# Altium footprint library Jump_254.PcbLib: 184 footprints (part 8 of 12)
Each footprint in its own frame and in the unit in brackets; x right, y up, seen from the top. Pads: shape width x height; smd on the part's side, far side on the other; paste and mask are expansions set on the pad; w line width, h text height; cw(c..) or ccw(c..) is an arc to the next point about the centre after c.
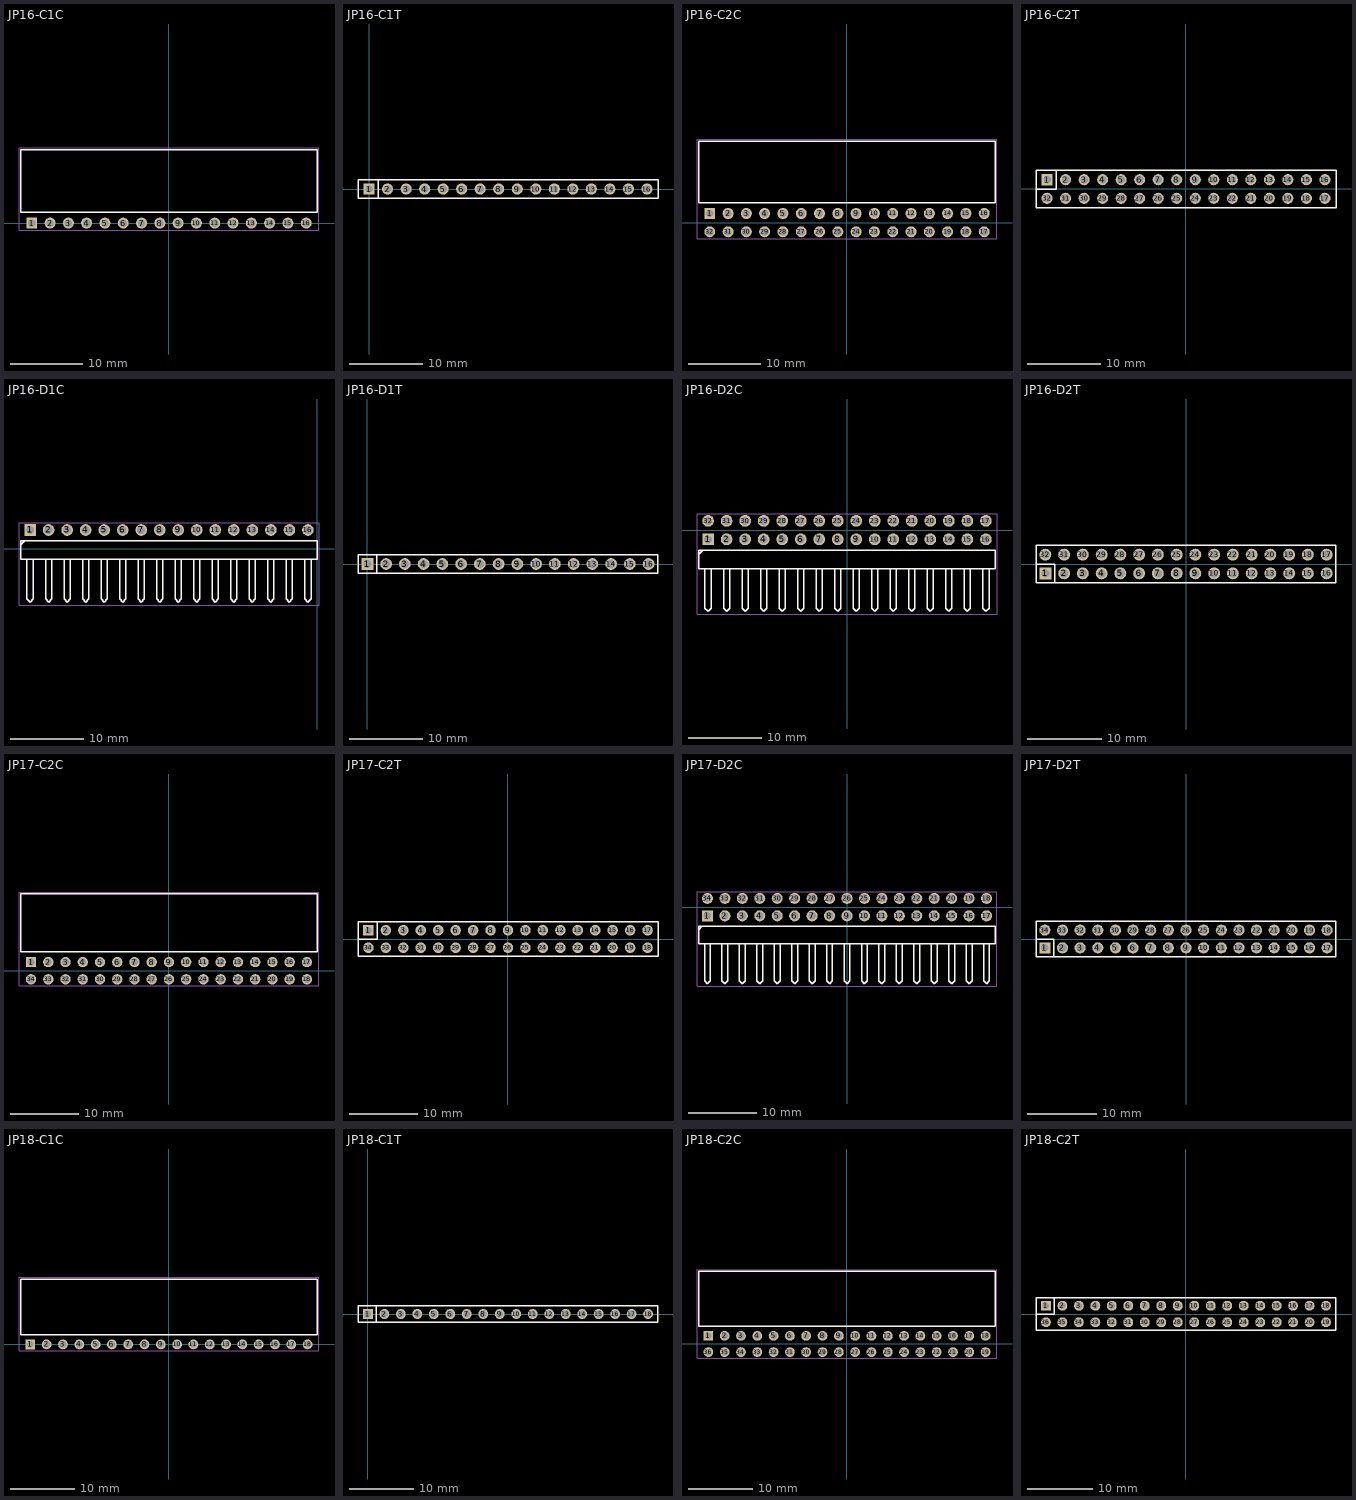
[diagram p7: the footprints below, top view; thin cyan lines are the x and y axes]

## JP16-C1C [mm] "16p 1 row Right angle"
height 2.5
pads (16):
  rect 1.52x1.52 hole 1.02: 1(-19.05,0)
  round 1.52 hole 1.02: 2(-16.51,0) 3(-13.97,0) 4(-11.43,0) 5(-8.89,0) 6(-6.35,0) 7(-3.81,0) 8(-1.27,0) 9(1.27,0) 10(3.81,0) 11(6.35,0) 12(8.89,0) 13(11.43,0) 14(13.97,0) 15(16.51,0) 16(19.05,0)
Top Overlay:
  lines w0.2: -20.574,1.524 -20.574,10.173 20.574,10.173 20.574,1.524 -20.574,1.524
Mechanical 15:
  lines w0.1: -20.82,-0.96 20.824,-0.96 20.824,10.423 -20.82,10.423 -20.82,-0.96
3D body "613016143121.stp": height 2.51, standoff -3.08, extent -20.57,-0.208 20.57,10.092

## JP16-C1T [mm] "16 row, straight, gold plating"
height 8.5
pads (16):
  rect 1.52x1.52 hole 1.02: 1(0,0)
  round 1.52 hole 1.02: 2(2.54,0) 3(5.08,0) 4(7.62,0) 5(10.16,0) 6(12.7,0) 7(15.24,0) 8(17.78,0) 9(20.32,0) 10(22.86,0) 11(25.4,0) 12(27.94,0) 13(30.48,0) 14(33.02,0) 15(35.56,0) 16(38.1,0)
Top Overlay:
  lines w0.2: 1.27,-1.27 1.27,1.27 ; -1.52,-1.27 39.62,-1.27 39.62,1.27 0.635,1.27 -1.52,1.27 -1.52,-1.27
3D body "61301611821.stp": height 8.51, standoff -3.09, extent -1.52,-1.25 39.62,1.25

## JP16-C2C [mm] "32p 2 rows Right angle"
height 5.08
pads (32):
  rect 1.52x1.52 hole 1.02: 1(-19.05,1.27)
  round 1.52 hole 1.02: 2(-16.51,1.27) 3(-13.97,1.27) 4(-11.43,1.27) 5(-8.89,1.27) 6(-6.35,1.27) 7(-3.81,1.27) 8(-1.27,1.27) 9(1.27,1.27) 10(3.81,1.27) 11(6.35,1.27) 12(8.89,1.27) 13(11.43,1.27) 14(13.97,1.27) 15(16.51,1.27) 16(19.05,1.27) 17(19.05,-1.27) 18(16.51,-1.27) 19(13.97,-1.27) 20(11.43,-1.27) 21(8.89,-1.27) 22(6.35,-1.27) 23(3.81,-1.27) 24(1.27,-1.27) 25(-1.27,-1.27) 26(-3.81,-1.27) 27(-6.35,-1.27) 28(-8.89,-1.27) 29(-11.43,-1.27) 30(-13.97,-1.27) 31(-16.51,-1.27) 32(-19.05,-1.27)
Top Overlay:
  lines w0.2: -20.574,2.794 20.574,2.794 20.574,11.316 -20.574,11.316 -20.574,2.794
Mechanical 15:
  lines w0.1: -20.82,-2.23 20.824,-2.23 20.824,11.566 -20.82,11.566 -20.82,-2.23
3D body "613032243121.stp": height 5.09, standoff -4.46, extent -20.57,-1.478 20.57,11.362

## JP16-C2T [mm] "32 pins, dual row, straight, gold plating"
height 8.5
pads (32):
  rect 1.52x1.52 hole 1.02: 1(-19.05,1.27)
  round 1.52 hole 1.02: 2(-16.51,1.27) 3(-13.97,1.27) 4(-11.43,1.27) 5(-8.89,1.27) 6(-6.35,1.27) 7(-3.81,1.27) 8(-1.27,1.27) 9(1.27,1.27) 10(3.81,1.27) 11(6.35,1.27) 12(8.89,1.27) 13(11.43,1.27) 14(13.97,1.27) 15(16.51,1.27) 16(19.05,1.27) 17(19.05,-1.27) 18(16.51,-1.27) 19(13.97,-1.27) 20(11.43,-1.27) 21(8.89,-1.27) 22(6.35,-1.27) 23(3.81,-1.27) 24(1.27,-1.27) 25(-1.27,-1.27) 26(-3.81,-1.27) 27(-6.35,-1.27) 28(-8.89,-1.27) 29(-11.43,-1.27) 30(-13.97,-1.27) 31(-16.51,-1.27) 32(-19.05,-1.27)
Top Overlay:
  lines w0.2: -20.57,0 -17.78,0 -17.78,2.54 ; -20.57,-2.54 20.57,-2.54 20.57,2.54 -20.57,2.54 -20.57,-2.54
3D body "61303221821.stp": height 8.51, standoff -3.09, extent -20.57,-2.54 20.57,2.54

## JP16-D1C [mm] "16 pins, 1 row, right angled, gold plating"
height 2.54
pads (16):
  rect 1.6x1.6 hole 1.1: 1(-39.37,2.54)
  round 1.6 hole 1.1: 2(-36.83,2.54) 3(-34.29,2.54) 4(-31.75,2.54) 5(-29.21,2.54) 6(-26.67,2.54) 7(-24.13,2.54) 8(-21.59,2.54) 9(-19.05,2.54) 10(-16.51,2.54) 11(-13.97,2.54) 12(-11.43,2.54) 13(-8.89,2.54) 14(-6.35,2.54) 15(-3.81,2.54) 16(-1.27,2.54)
Top Overlay:
  lines w0.2: -40.598,0.574 -40.174,0.998 ; -39.793,-1.525 -39.793,-6.919 -39.37,-7.342 -38.947,-6.919 -38.947,-1.5 ; -37.253,-1.525 -37.253,-6.919 -36.83,-7.342 -36.407,-6.919 -36.407,-1.525 ; -34.713,-1.525 -34.713,-6.919 -34.29,-7.342 -33.867,-6.919 -33.867,-1.5 ; -32.173,-1.525 -32.173,-6.919 -31.75,-7.342 -31.327,-6.919 -31.327,-1.525 ; -29.633,-1.525 -29.633,-6.919 -29.21,-7.342 -28.787,-6.919 -28.787,-1.5 ; -27.093,-1.525 -27.093,-6.919 -26.67,-7.342 -26.247,-6.919 -26.247,-1.525 ; -24.553,-1.525 -24.553,-6.919 -24.13,-7.342 -23.707,-6.919 -23.707,-1.5 ; -22.013,-1.525 -22.013,-6.919 -21.59,-7.342 -21.167,-6.919 -21.167,-1.525 ; -19.473,-1.525 -19.473,-6.919 -19.05,-7.342 -18.627,-6.919 -18.627,-1.5 ; -16.933,-1.525 -16.933,-6.919 -16.51,-7.342 -16.087,-6.919 -16.087,-1.525 ; -14.393,-1.525 -14.393,-6.919 -13.97,-7.342 -13.547,-6.919 -13.547,-1.5 ; -11.853,-1.525 -11.853,-6.919 -11.43,-7.342 -11.007,-6.919 -11.007,-1.525 ; -9.313,-1.525 -9.313,-6.919 -8.89,-7.342 -8.467,-6.919 -8.467,-1.5 ; -6.773,-1.525 -6.773,-6.919 -6.35,-7.342 -5.927,-6.919 -5.927,-1.525 ; -4.233,-1.525 -4.233,-6.919 -3.81,-7.342 -3.387,-6.919 -3.387,-1.5 ; -1.693,-1.525 -1.693,-6.919 -1.27,-7.342 -0.847,-6.919 -0.847,-1.525 ; -40.64,-1.5 0,-1.5 0,1.04 -40.64,1.04 -40.64,-1.5
Mechanical 15:
  lines w0.1: -40.89,-7.75 -40.89,3.5 0.25,3.5 0.25,-7.75 -40.89,-7.75
3D body "61301611021.stp": height 2.55, standoff -2.99, extent -40.64,-7.524 0,2.836

## JP16-D1T [mm] "16  pins, 1 row, straight, gold plating"
height 8.54
pads (16):
  rect 1.6x1.6 hole 1.1: 1(0,0)
  round 1.6 hole 1.1: 2(2.54,0) 3(5.08,0) 4(7.62,0) 5(10.16,0) 6(12.7,0) 7(15.24,0) 8(17.78,0) 9(20.32,0) 10(22.86,0) 11(25.4,0) 12(27.94,0) 13(30.48,0) 14(33.02,0) 15(35.56,0) 16(38.1,0)
Top Overlay:
  lines w0.2: 1.27,-1.27 1.27,1.27 ; -1.27,-1.27 -1.27,1.27 0.635,1.27 39.37,1.27 39.37,-1.27 -1.27,-1.27
3D body "61301611121.stp": height 8.54, standoff -3, extent -1.27,-1.27 39.37,1.27

## JP16-D2C [mm] "32 pins, dual row, right angled, gold plating"
height 5.08
pads (32):
  rect 1.6x1.6 hole 1.1: 1(-19.05,-1.27)
  round 1.6 hole 1.1: 2(-16.51,-1.27) 3(-13.97,-1.27) 4(-11.43,-1.27) 5(-8.89,-1.27) 6(-6.35,-1.27) 7(-3.81,-1.27) 8(-1.27,-1.27) 9(1.27,-1.27) 10(3.81,-1.27) 11(6.35,-1.27) 12(8.89,-1.27) 13(11.43,-1.27) 14(13.97,-1.27) 15(16.51,-1.27) 16(19.05,-1.27) 17(19.05,1.27) 18(16.51,1.27) 19(13.97,1.27) 20(11.43,1.27) 21(8.89,1.27) 22(6.35,1.27) 23(3.81,1.27) 24(1.27,1.27) 25(-1.27,1.27) 26(-3.81,1.27) 27(-6.35,1.27) 28(-8.89,1.27) 29(-11.43,1.27) 30(-13.97,1.27) 31(-16.51,1.27) 32(-19.05,1.27)
Top Overlay:
  lines w0.2: -20.278,-3.236 -19.854,-2.812 ; -19.473,-5.335 -19.473,-10.729 -19.05,-11.152 -18.627,-10.729 -18.627,-5.31 ; -16.933,-5.335 -16.933,-10.729 -16.51,-11.152 -16.087,-10.729 -16.087,-5.335 ; -14.393,-5.335 -14.393,-10.729 -13.97,-11.152 -13.547,-10.729 -13.547,-5.31 ; -11.853,-5.335 -11.853,-10.729 -11.43,-11.152 -11.007,-10.729 -11.007,-5.335 ; -9.313,-5.335 -9.313,-10.729 -8.89,-11.152 -8.467,-10.729 -8.467,-5.31 ; -6.773,-5.335 -6.773,-10.729 -6.35,-11.152 -5.927,-10.729 -5.927,-5.335 ; -4.233,-5.335 -4.233,-10.729 -3.81,-11.152 -3.387,-10.729 -3.387,-5.31 ; -1.693,-5.335 -1.693,-10.729 -1.27,-11.152 -0.847,-10.729 -0.847,-5.335 ; 0.847,-5.335 0.847,-10.729 1.27,-11.152 1.693,-10.729 1.693,-5.31 ; 3.387,-5.335 3.387,-10.729 3.81,-11.152 4.233,-10.729 4.233,-5.335 ; 5.927,-5.335 5.927,-10.729 6.35,-11.152 6.773,-10.729 6.773,-5.31 ; 8.467,-5.335 8.467,-10.729 8.89,-11.152 9.313,-10.729 9.313,-5.335 ; 11.007,-5.335 11.007,-10.729 11.43,-11.152 11.853,-10.729 11.853,-5.31 ; 13.547,-5.335 13.547,-10.729 13.97,-11.152 14.393,-10.729 14.393,-5.335 ; 16.087,-5.335 16.087,-10.729 16.51,-11.152 16.933,-10.729 16.933,-5.31 ; 18.627,-5.335 18.627,-10.729 19.05,-11.152 19.473,-10.729 19.473,-5.335 ; -20.32,-5.31 20.32,-5.31 20.32,-2.77 -20.32,-2.77 -20.32,-5.31
Mechanical 15:
  lines w0.1: -20.57,-11.56 20.57,-11.56 20.57,2.27 -20.57,2.27 -20.57,-11.56
3D body "61303221021.stp": height 5.09, standoff -2.99, extent -20.32,-11.334 20.32,1.566

## JP16-D2T [mm] "32 pins, dual pin, straight, gold plating"
height 8.54
pads (32):
  rect 1.6x1.6 hole 1.1: 1(-19.05,-1.27)
  round 1.6 hole 1.1: 2(-16.51,-1.27) 3(-13.97,-1.27) 4(-11.43,-1.27) 5(-8.89,-1.27) 6(-6.35,-1.27) 7(-3.81,-1.27) 8(-1.27,-1.27) 9(1.27,-1.27) 10(3.81,-1.27) 11(6.35,-1.27) 12(8.89,-1.27) 13(11.43,-1.27) 14(13.97,-1.27) 15(16.51,-1.27) 16(19.05,-1.27) 17(19.05,1.27) 18(16.51,1.27) 19(13.97,1.27) 20(11.43,1.27) 21(8.89,1.27) 22(6.35,1.27) 23(3.81,1.27) 24(1.27,1.27) 25(-1.27,1.27) 26(-3.81,1.27) 27(-6.35,1.27) 28(-8.89,1.27) 29(-11.43,1.27) 30(-13.97,1.27) 31(-16.51,1.27) 32(-19.05,1.27)
Top Overlay:
  lines w0.2: -20.32,0 -17.78,0 -17.78,-2.54 ; -20.32,-2.54 -20.32,2.54 20.32,2.54 20.32,-2.54 -20.32,-2.54
3D body "61303221121.stp": height 8.55, standoff -2.99, extent -20.32,-2.54 20.32,2.54

## JP17-C2C [mm] "34p 2 rows Right angle"
height 5.08
pads (34):
  rect 1.52x1.52 hole 1.02: 1(-20.32,1.27)
  round 1.52 hole 1.02: 2(-17.78,1.27) 3(-15.24,1.27) 4(-12.7,1.27) 5(-10.16,1.27) 6(-7.62,1.27) 7(-5.08,1.27) 8(-2.54,1.27) 9(0,1.27) 10(2.54,1.27) 11(5.08,1.27) 12(7.62,1.27) 13(10.16,1.27) 14(12.7,1.27) 15(15.24,1.27) 16(17.78,1.27) 17(20.32,1.27) 18(20.32,-1.27) 19(17.78,-1.27) 20(15.24,-1.27) 21(12.7,-1.27) 22(10.16,-1.27) 23(7.62,-1.27) 24(5.08,-1.27) 25(2.54,-1.27) 26(0,-1.27) 27(-2.54,-1.27) 28(-5.08,-1.27) 29(-7.62,-1.27) 30(-10.16,-1.27) 31(-12.7,-1.27) 32(-15.24,-1.27) 33(-17.78,-1.27) 34(-20.32,-1.27)
Top Overlay:
  lines w0.2: -21.844,2.794 -21.844,11.316 21.844,11.316 21.844,2.794 -21.844,2.794
Mechanical 15:
  lines w0.1: -22.09,-2.23 -22.09,11.566 22.094,11.566 22.094,-2.23 -22.09,-2.23
3D body "613034243121.stp": height 5.09, standoff -4.46, extent -21.84,-1.478 21.84,11.362

## JP17-C2T [mm] "34 pins, dual row, straight, gold plating"
height 8.5
pads (34):
  rect 1.52x1.52 hole 1.02: 1(-20.32,1.27)
  round 1.52 hole 1.02: 2(-17.78,1.27) 3(-15.24,1.27) 4(-12.7,1.27) 5(-10.16,1.27) 6(-7.62,1.27) 7(-5.08,1.27) 8(-2.54,1.27) 9(0,1.27) 10(2.54,1.27) 11(5.08,1.27) 12(7.62,1.27) 13(10.16,1.27) 14(12.7,1.27) 15(15.24,1.27) 16(17.78,1.27) 17(20.32,1.27) 18(20.32,-1.27) 19(17.78,-1.27) 20(15.24,-1.27) 21(12.7,-1.27) 22(10.16,-1.27) 23(7.62,-1.27) 24(5.08,-1.27) 25(2.54,-1.27) 26(0,-1.27) 27(-2.54,-1.27) 28(-5.08,-1.27) 29(-7.62,-1.27) 30(-10.16,-1.27) 31(-12.7,-1.27) 32(-15.24,-1.27) 33(-17.78,-1.27) 34(-20.32,-1.27)
Top Overlay:
  lines w0.2: -21.84,0 -19.05,0 -19.05,2.54 ; -21.84,-2.54 21.84,-2.54 21.84,2.54 -21.84,2.54 -21.84,-2.54
3D body "61303421821.stp": height 8.51, standoff -3.09, extent -21.84,-2.54 21.84,2.54

## JP17-D2C [mm] "34 pins, dual row, right angled, gold plating"
height 5.08
pads (34):
  rect 1.6x1.6 hole 1.1: 1(-20.32,-1.27)
  round 1.6 hole 1.1: 2(-17.78,-1.27) 3(-15.24,-1.27) 4(-12.7,-1.27) 5(-10.16,-1.27) 6(-7.62,-1.27) 7(-5.08,-1.27) 8(-2.54,-1.27) 9(0,-1.27) 10(2.54,-1.27) 11(5.08,-1.27) 12(7.62,-1.27) 13(10.16,-1.27) 14(12.7,-1.27) 15(15.24,-1.27) 16(17.78,-1.27) 17(20.32,-1.27) 18(20.32,1.27) 19(17.78,1.27) 20(15.24,1.27) 21(12.7,1.27) 22(10.16,1.27) 23(7.62,1.27) 24(5.08,1.27) 25(2.54,1.27) 26(0,1.27) 27(-2.54,1.27) 28(-5.08,1.27) 29(-7.62,1.27) 30(-10.16,1.27) 31(-12.7,1.27) 32(-15.24,1.27) 33(-17.78,1.27) 34(-20.32,1.27)
Top Overlay:
  lines w0.2: -21.548,-3.236 -21.124,-2.812 ; -20.743,-5.335 -20.743,-10.729 -20.32,-11.152 -19.897,-10.729 -19.897,-5.31 ; -18.203,-5.335 -18.203,-10.729 -17.78,-11.152 -17.357,-10.729 -17.357,-5.335 ; -15.663,-5.335 -15.663,-10.729 -15.24,-11.152 -14.817,-10.729 -14.817,-5.31 ; -13.123,-5.335 -13.123,-10.729 -12.7,-11.152 -12.277,-10.729 -12.277,-5.335 ; -10.583,-5.335 -10.583,-10.729 -10.16,-11.152 -9.737,-10.729 -9.737,-5.31 ; -8.043,-5.335 -8.043,-10.729 -7.62,-11.152 -7.197,-10.729 -7.197,-5.335 ; -5.503,-5.335 -5.503,-10.729 -5.08,-11.152 -4.657,-10.729 -4.657,-5.31 ; -2.963,-5.335 -2.963,-10.729 -2.54,-11.152 -2.117,-10.729 -2.117,-5.335 ; -0.423,-5.335 -0.423,-10.729 0,-11.152 0.423,-10.729 0.423,-5.31 ; 2.117,-5.335 2.117,-10.729 2.54,-11.152 2.963,-10.729 2.963,-5.335 ; 4.657,-5.335 4.657,-10.729 5.08,-11.152 5.503,-10.729 5.503,-5.31 ; 7.197,-5.335 7.197,-10.729 7.62,-11.152 8.043,-10.729 8.043,-5.335 ; 9.737,-5.335 9.737,-10.729 10.16,-11.152 10.583,-10.729 10.583,-5.31 ; 12.277,-5.335 12.277,-10.729 12.7,-11.152 13.123,-10.729 13.123,-5.335 ; 14.817,-5.335 14.817,-10.729 15.24,-11.152 15.663,-10.729 15.663,-5.31 ; 17.357,-5.335 17.357,-10.729 17.78,-11.152 18.203,-10.729 18.203,-5.335 ; 19.897,-5.335 19.897,-10.729 20.32,-11.152 20.743,-10.729 20.743,-5.31 ; -21.59,-5.31 21.59,-5.31 21.59,-2.77 -21.59,-2.77 -21.59,-5.31
Mechanical 15:
  lines w0.1: -21.84,-11.56 21.84,-11.56 21.84,2.27 -21.84,2.27 -21.84,-11.56
3D body "61303421021.stp": height 5.09, standoff -2.99, extent -21.59,-11.334 21.59,1.566

## JP17-D2T [mm] "34 pins, dual pin, straight, gold plating"
height 8.54
pads (34):
  rect 1.6x1.6 hole 1.1: 1(-20.32,-1.27)
  round 1.6 hole 1.1: 2(-17.78,-1.27) 3(-15.24,-1.27) 4(-12.7,-1.27) 5(-10.16,-1.27) 6(-7.62,-1.27) 7(-5.08,-1.27) 8(-2.54,-1.27) 9(0,-1.27) 10(2.54,-1.27) 11(5.08,-1.27) 12(7.62,-1.27) 13(10.16,-1.27) 14(12.7,-1.27) 15(15.24,-1.27) 16(17.78,-1.27) 17(20.32,-1.27) 18(20.32,1.27) 19(17.78,1.27) 20(15.24,1.27) 21(12.7,1.27) 22(10.16,1.27) 23(7.62,1.27) 24(5.08,1.27) 25(2.54,1.27) 26(0,1.27) 27(-2.54,1.27) 28(-5.08,1.27) 29(-7.62,1.27) 30(-10.16,1.27) 31(-12.7,1.27) 32(-15.24,1.27) 33(-17.78,1.27) 34(-20.32,1.27)
Top Overlay:
  lines w0.2: -21.59,0 -19.05,0 -19.05,-2.54 ; -21.59,-2.54 21.59,-2.54 21.59,2.54 -21.59,2.54 -21.59,-2.54
3D body "61303421121.stp": height 8.55, standoff -2.99, extent -21.59,-2.54 21.59,2.54

## JP18-C1C [mm] "18p 1 row Right angle"
height 2.5
pads (18):
  rect 1.52x1.52 hole 1.02: 1(-21.59,0)
  round 1.52 hole 1.02: 2(-19.05,0) 3(-16.51,0) 4(-13.97,0) 5(-11.43,0) 6(-8.89,0) 7(-6.35,0) 8(-3.81,0) 9(-1.27,0) 10(1.27,0) 11(3.81,0) 12(6.35,0) 13(8.89,0) 14(11.43,0) 15(13.97,0) 16(16.51,0) 17(19.05,0) 18(21.59,0)
Top Overlay:
  lines w0.2: -23.114,1.524 23.114,1.524 23.114,10.173 -23.114,10.173 -23.114,1.524
Mechanical 15:
  lines w0.1: -23.36,-0.96 23.364,-0.96 23.364,10.423 -23.36,10.423 -23.36,-0.96
3D body "613018143121.stp": height 2.51, standoff -3.08, extent -23.11,-0.208 23.11,10.092

## JP18-C1T [mm] "18 row, straight, gold plating"
height 8.5
pads (18):
  rect 1.52x1.52 hole 1.02: 1(0,0)
  round 1.52 hole 1.02: 2(2.54,0) 3(5.08,0) 4(7.62,0) 5(10.16,0) 6(12.7,0) 7(15.24,0) 8(17.78,0) 9(20.32,0) 10(22.86,0) 11(25.4,0) 12(27.94,0) 13(30.48,0) 14(33.02,0) 15(35.56,0) 16(38.1,0) 17(40.64,0) 18(43.18,0)
Top Overlay:
  lines w0.2: 1.27,-1.27 1.27,1.27 ; -1.52,-1.27 44.7,-1.27 44.7,1.27 0.635,1.27 -1.52,1.27 -1.52,-1.27
3D body "61301811821.stp": height 8.51, standoff -3.09, extent -1.52,-1.25 44.7,1.25

## JP18-C2C [mm] "36p 2 rows Right angle"
height 5.08
pads (36):
  rect 1.52x1.52 hole 1.02: 1(-21.59,1.27)
  round 1.52 hole 1.02: 2(-19.05,1.27) 3(-16.51,1.27) 4(-13.97,1.27) 5(-11.43,1.27) 6(-8.89,1.27) 7(-6.35,1.27) 8(-3.81,1.27) 9(-1.27,1.27) 10(1.27,1.27) 11(3.81,1.27) 12(6.35,1.27) 13(8.89,1.27) 14(11.43,1.27) 15(13.97,1.27) 16(16.51,1.27) 17(19.05,1.27) 18(21.59,1.27) 19(21.59,-1.27) 20(19.05,-1.27) 21(16.51,-1.27) 22(13.97,-1.27) 23(11.43,-1.27) 24(8.89,-1.27) 25(6.35,-1.27) 26(3.81,-1.27) 27(1.27,-1.27) 28(-1.27,-1.27) 29(-3.81,-1.27) 30(-6.35,-1.27) 31(-8.89,-1.27) 32(-11.43,-1.27) 33(-13.97,-1.27) 34(-16.51,-1.27) 35(-19.05,-1.27) 36(-21.59,-1.27)
Top Overlay:
  lines w0.2: -23.114,2.794 23.114,2.794 23.114,11.316 -23.114,11.316 -23.114,2.794
Mechanical 15:
  lines w0.1: -23.36,-2.23 23.364,-2.23 23.364,11.566 -23.36,11.566 -23.36,-2.23
3D body "613036243121.stp": height 5.09, standoff -4.46, extent -23.11,-1.478 23.11,11.362

## JP18-C2T [mm] "36 pins, dual row, straight, gold plating"
height 8.5
pads (36):
  rect 1.52x1.52 hole 1.02: 1(-21.59,1.27)
  round 1.52 hole 1.02: 2(-19.05,1.27) 3(-16.51,1.27) 4(-13.97,1.27) 5(-11.43,1.27) 6(-8.89,1.27) 7(-6.35,1.27) 8(-3.81,1.27) 9(-1.27,1.27) 10(1.27,1.27) 11(3.81,1.27) 12(6.35,1.27) 13(8.89,1.27) 14(11.43,1.27) 15(13.97,1.27) 16(16.51,1.27) 17(19.05,1.27) 18(21.59,1.27) 19(21.59,-1.27) 20(19.05,-1.27) 21(16.51,-1.27) 22(13.97,-1.27) 23(11.43,-1.27) 24(8.89,-1.27) 25(6.35,-1.27) 26(3.81,-1.27) 27(1.27,-1.27) 28(-1.27,-1.27) 29(-3.81,-1.27) 30(-6.35,-1.27) 31(-8.89,-1.27) 32(-11.43,-1.27) 33(-13.97,-1.27) 34(-16.51,-1.27) 35(-19.05,-1.27) 36(-21.59,-1.27)
Top Overlay:
  lines w0.2: -23.11,0 -20.32,0 -20.32,2.54 ; -23.11,-2.54 23.11,-2.54 23.11,2.54 -23.11,2.54 -23.11,-2.54
3D body "61303621821.stp": height 8.51, standoff -3.09, extent -23.11,-2.54 23.11,2.54